# Altium footprint library SolderingController.PcbLib: 6 footprints
Each footprint in its own frame and in the unit in brackets; x right, y up, seen from the top. Pads: shape width x height; smd on the part's side, far side on the other; paste and mask are expansions set on the pad; w line width, h text height; cw(c..) or ccw(c..) is an arc to the next point about the centre after c.
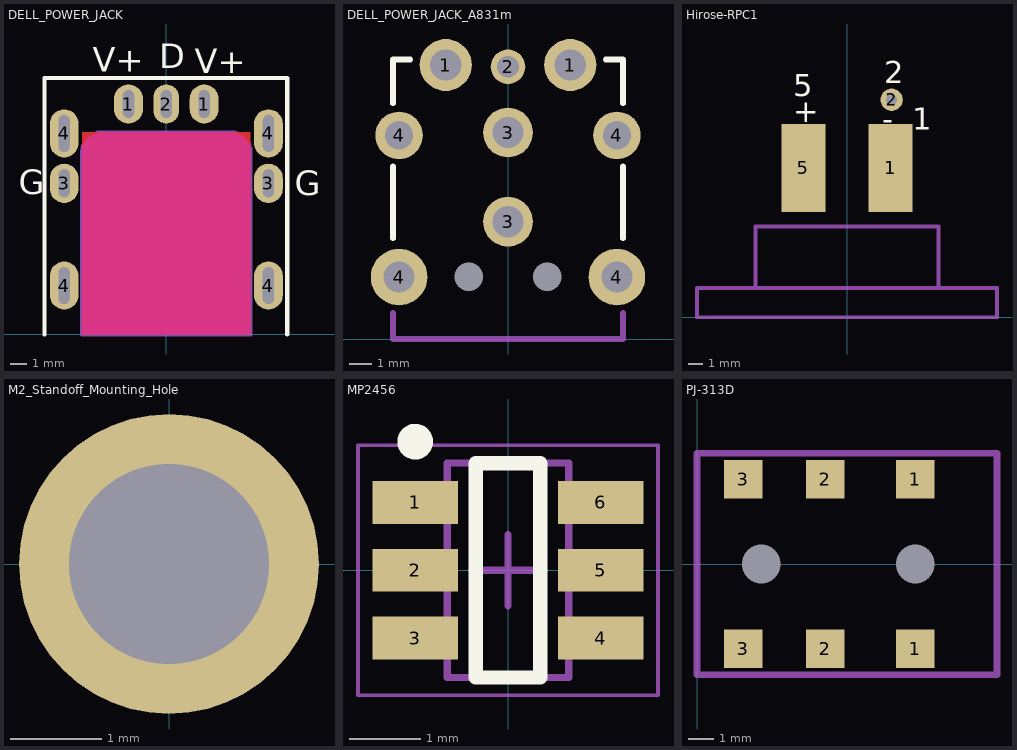
[diagram p0: the footprints below, top view; thin cyan lines are the x and y axes]

## DELL_POWER_JACK [mm] "Dell power jack"
pads (9):
  oval 1.8x2.45 hole 0.69 slot 1.75 at 90 deg: 1(-2.36,14.37) 1(2.36,14.37) 3(-6.37,9.42) 3(6.37,9.42)
  oval 1.6x2.45 hole 0.69 slot 1.75 at 90 deg: 2(0,14.37)
  oval 1.8x3 hole 0.69 slot 2.3 at 90 deg: 4(-6.37,3.045) 4(-6.37,12.54) 4(6.37,3.045) 4(6.37,12.54)
Top Layer:
  pour cut-out: -5.25,12.6 5.25,12.6 5.25,0 -5.25,0
Top Overlay:
  lines w0.254: -7.595,0 -7.595,16.002 7.544,16.002 7.544,0
  text "V+" at -4.597,16.383 h1.52
  text "V+" at 1.774,16.281 h1.52
  text "D" at -0.432,16.612 h1.52
  text "G" at 8.001,8.687 h1.52
  text "G" at -9.189,8.741 h1.52
Keep-Out Layer:
  board cut-out: -5.25,0 5.25,0 5.25,11.414 5.25,11.53 5.205,11.758 5.116,11.973 4.987,12.166 4.822,12.331 4.629,12.46 4.414,12.549 4.186,12.594 4.07,12.594 4.064,12.6 -4.064,12.6 -4.18,12.6 -4.408,12.555 -4.623,12.466 -4.816,12.337 -4.981,12.172 -5.11,11.979 -5.199,11.764 -5.244,11.536 -5.244,11.42
Mechanical 1:
  lines w0.254: -5.25,0 5.25,0 5.25,11.414 ccw(c4.07,11.414) 4.07,12.594 ; -5.244,0.006 -5.244,11.42 cw(c-4.064,11.42) -4.064,12.6 4.064,12.6
3D body "dell_jack.STEP": height 6.23, standoff -4.33, extent -6.45,0 6.45,15

## DELL_POWER_JACK_A831m [mm]
pads (11):
  round 2.3 hole 1.38: 1(-2.75,12.1) 1(2.75,12.1)
  round 1.524 hole 0.95: 2(0,12.025)
  round 2.2 hole 1.38: 3(0,5.18) 3(0,9.12)
  round 2.5 hole 1.38: 4(-4.81,2.735) 4(4.81,2.735)
  round 2.1 hole 1.25: 4(-4.81,8.995) 4(4.81,8.995)
  round 0 hole 1.25 unplated: ""(-1.74,2.75) ""(1.74,2.75)
Top Overlay:
  lines w0.254: -5.08,4.445 -5.08,7.62 ; -5.08,10.414 -5.08,12.35 -4.318,12.35 ; 4.318,12.35 5.08,12.35 5.08,10.414 ; 5.08,4.445 5.08,7.62
Bottom Overlay:
  text "+" at 4.699,12.573 h0.89
  text "+" at -4.699,12.573 h0.89
  text "GND" at 1.143,6.858 h0.89
Mechanical 15:
  lines w0.254: -5.08,1.143 -5.08,0 5.08,0 5.08,1.143
3D body "DELL_A831M.STEP": height 11.1, standoff -2.3, extent -5.015,0.005 5.035,12.345

## Hirose-RPC1 [mm]
pads (3):
  rect 3x6 smd: 1(2.98,10.2) 5(-2.98,10.2)
  round 1.524 hole 0.762: 2(3.048,14.859)
Top Overlay:
  text "1" at 4.445,12.827 h1.52
  text "5" at -3.683,15.113 h1.52
  text "-" at 2.413,12.827 h1.52
  text "+" at -3.683,13.335 h1.52
  text "2" at 2.54,16.002 h1.52
Mechanical 15:
  lines w0.254: -6.25,2 -6.25,6.2 0,6.2 6.25,6.2 6.25,2 ; -10.25,0 0,0 10.25,0 10.25,2 0,2 -10.25,2 -10.25,0
3D body "Hirose-RPC1.STEP": height 13.09, standoff -7.11, extent -10.095,-9.5 10.095,12.707

## M2_Standoff_Mounting_Hole [mm]
pads (1):
  round 3.3 hole 2.2: ""(0,0)

## MP2456 [mm] "TSOT23-6"
height 1
pads (6):
  rect 1.2x0.6 smd: 1(-1.3,0.95) 2(-1.3,0) 3(-1.3,-0.95) 4(1.3,-0.95) 5(1.3,0) 6(1.3,0.95)
Top Overlay:
  circle w0.25: c-1.3,1.8 r0.125
  lines w0.2: -0.45,-1.5 0.45,-1.5 0.45,1.5 -0.45,1.5 -0.45,-1.5
Mechanical 13:
  lines w0.1: -0.85,-1.5 -0.85,1.5 0.85,1.5 0.85,-1.5 -0.85,-1.5
Mechanical 15:
  lines w0.05: -2.1,-1.75 -2.1,1.75 2.1,1.75 2.1,-1.75 -2.1,-1.75
  lines w0.1: -0.5,0 0.5,0 ; 0,-0.5 0,0.5
3D body "MP2456.step": height 1, standoff 0, extent -1.5,-1.5 1.5,1.5

## PJ-313D [mm] "Audio Jack"
pads (8):
  rect 1.5x1.5 smd: 1(8.5,-3.3) 1(8.5,3.3) 2(5,-3.3) 2(5,3.3) 3(1.8,-3.3) 3(1.8,3.3)
  round 0 hole 1.5 unplated: MT(2.5,0) MT(8.5,0)
Mechanical 15:
  lines w0.254: 0,-4.318 11.684,-4.318 11.684,4.318 0,4.318 0,0 0,-4.318
3D body "PJ-313D.STEP": height 5.01, standoff -0.59, extent -2.5,-3.75 11.5,3.75